# Altium schematic symbol library kmilo17pet-NSC_LDO.SchLib: 2675 symbols (part 28 of 65)
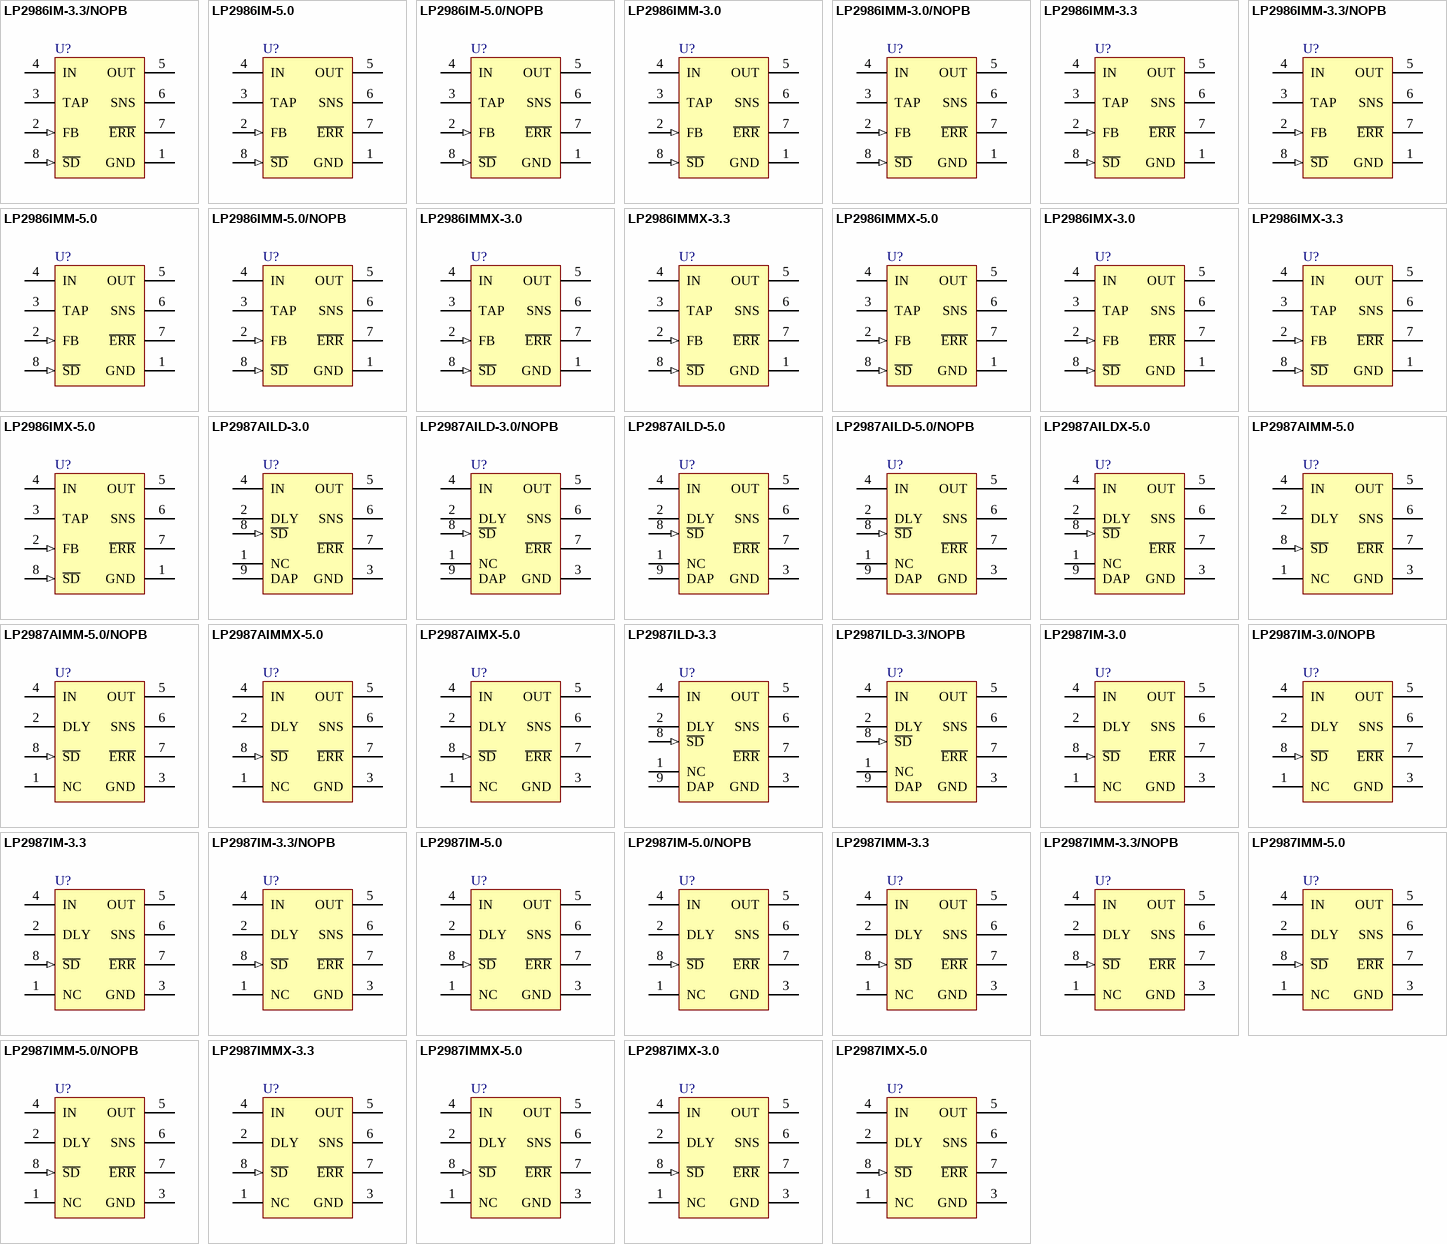
[diagram p94: symbols LP2986IM-3.3/NOPB to LP2987IMX-5.0]

## LP2987ILD-3.3
designator U?
Micropower, 200 mA Ultra Low-Dropout Voltage Regulator with Programmable Power-On Reset Delay, 8-pin LLP; PartNumber: LP2987ILD-3.3; Manufacturer: National Semiconductor; PackageTopMarking: NS*UZXYTT*L008A*B; PowerWise: N; CompType: LDO IC; High-Reliability: Y; DatasheetVersion: Mar-2005; PackageVersion: revB, Jun-2003; PackageReference: LDC08A; PackageDescription: LLP, Plastic, Dual, 4 x 4 x 0.75mm Body, 8 Lead, 0.8mm Pitch; RoHS: N; PinCount: 8; ComponentLink1Description: Manufacturer URL; ComponentLink1URL: http://www.national.com/; ComponentLink2Description: LP2987 Datasheet; ComponentLink2URL: http://www.national.com/ds/LP/LP2987.pdf; ComponentLink3Description: LP2987 Web Page; ComponentLink3URL: http://www.national.com/pf/LP/LP2987.html; ComponentLink4Description: LDC08A Package Page; ComponentLink4URL: http://www.national.com/packaging/folders/ldc08a.html
footprint LDC08A (PSON, 8-Leads, Body 4x4mm, Pitch 0.8mm, NSC Recommended)
pins: 1 NC, 2 DLY, 3 GND (power), 4 IN (power), 5 OUT (power), 6 SNS, 7 ~{ERR} (oc), 8 ~{SD} (in), 9 DAP (power)

## LP2987ILD-3.3/NOPB
designator U?
Micropower, 200 mA Ultra Low-Dropout Voltage Regulator with Programmable Power-On Reset Delay, 8-pin LLP, Pb-Free; PartNumber: LP2987ILD-3.3/NOPB; Manufacturer: National Semiconductor; PackageTopMarking: NS*UZXYTT*L008A*B; PowerWise: N; CompType: LDO IC; High-Reliability: Y; DatasheetVersion: Mar-2005; PackageVersion: revB, Jun-2003; PackageReference: LDC08A; PackageDescription: LLP, Plastic, Dual, 4 x 4 x 0.75mm Body, 8 Lead, 0.8mm Pitch; RoHS: Y; PinCount: 8; ComponentLink1Description: Manufacturer URL; ComponentLink1URL: http://www.national.com/; ComponentLink2Description: LP2987 Datasheet; ComponentLink2URL: http://www.national.com/ds/LP/LP2987.pdf; ComponentLink3Description: LP2987 Web Page; ComponentLink3URL: http://www.national.com/pf/LP/LP2987.html; ComponentLink4Description: LDC08A Package Page; ComponentLink4URL: http://www.national.com/packaging/folders/ldc08a.html
footprint LDC08A (PSON, 8-Leads, Body 4x4mm, Pitch 0.8mm, NSC Recommended)
pins: 1 NC, 2 DLY, 3 GND (power), 4 IN (power), 5 OUT (power), 6 SNS, 7 ~{ERR} (oc), 8 ~{SD} (in), 9 DAP (power)

## LP2987IM-3.0
designator U?
Micropower, 200 mA Ultra Low-Dropout Voltage Regulator with Programmable Power-On Reset Delay, 8-pin Narrow SOIC; PartNumber: LP2987IM-3.0; Manufacturer: National Semiconductor; PackageTopMarking: NSZXTT*2987I*M3.0; PowerWise: N; CompType: LDO IC; High-Reliability: Y; DatasheetVersion: Mar-2005; PackageVersion: revM, May-2009; PackageReference: M08A; PackageDescription: SOIC Narrow, 4.9 x 3.9 x 1.45mm, 8 Lead, 1.27mm Pitch; RoHS: N; PinCount: 8; Code_JEDEC: MS-012-AA; Code_IPC: SOIC127P600-8; ComponentLink1Description: Manufacturer URL; ComponentLink1URL: http://www.national.com/; ComponentLink2Description: LP2987 Datasheet; ComponentLink2URL: http://www.national.com/ds/LP/LP2987.pdf; ComponentLink3Description: LP2987 Web Page; ComponentLink3URL: http://www.national.com/pf/LP/LP2987.html; ComponentLink4Description: M08A Package Page; ComponentLink4URL: http://www.national.com/packaging/folders/m08a.html
footprint M08A_N (SOIC, 8-Leads, Body 4.9x3.9mm, Pitch 1.27mm, IPC Medium Density)
footprint M08A_L (SOIC, 8-Leads, Body 4.9x3.9mm, Pitch 1.27mm, IPC High Density)
footprint M08A_M (SOIC, 8-Leads, Body 4.9x3.9mm, Pitch 1.27mm, IPC Low Density)
pins: 1 NC, 2 DLY, 3 GND (power), 4 IN (power), 5 OUT (power), 6 SNS, 7 ~{ERR} (oc), 8 ~{SD} (in)

## LP2987IM-3.0/NOPB
designator U?
Micropower, 200 mA Ultra Low-Dropout Voltage Regulator with Programmable Power-On Reset Delay, 8-pin Narrow SOIC, Pb-Free; PartNumber: LP2987IM-3.0/NOPB; Manufacturer: National Semiconductor; PackageTopMarking: NSZXTT*2987I*M3.0; PowerWise: N; CompType: LDO IC; High-Reliability: Y; DatasheetVersion: Mar-2005; PackageVersion: revM, May-2009; PackageReference: M08A; PackageDescription: SOIC Narrow, 4.9 x 3.9 x 1.45mm, 8 Lead, 1.27mm Pitch; RoHS: Y; PinCount: 8; Code_JEDEC: MS-012-AA; Code_IPC: SOIC127P600-8; ComponentLink1Description: Manufacturer URL; ComponentLink1URL: http://www.national.com/; ComponentLink2Description: LP2987 Datasheet; ComponentLink2URL: http://www.national.com/ds/LP/LP2987.pdf; ComponentLink3Description: LP2987 Web Page; ComponentLink3URL: http://www.national.com/pf/LP/LP2987.html; ComponentLink4Description: M08A Package Page; ComponentLink4URL: http://www.national.com/packaging/folders/m08a.html
footprint M08A_N (SOIC, 8-Leads, Body 4.9x3.9mm, Pitch 1.27mm, IPC Medium Density)
footprint M08A_L (SOIC, 8-Leads, Body 4.9x3.9mm, Pitch 1.27mm, IPC High Density)
footprint M08A_M (SOIC, 8-Leads, Body 4.9x3.9mm, Pitch 1.27mm, IPC Low Density)
pins: 1 NC, 2 DLY, 3 GND (power), 4 IN (power), 5 OUT (power), 6 SNS, 7 ~{ERR} (oc), 8 ~{SD} (in)

## LP2987IM-3.3
designator U?
Micropower, 200 mA Ultra Low-Dropout Voltage Regulator with Programmable Power-On Reset Delay, 8-pin Narrow SOIC; PartNumber: LP2987IM-3.3; Manufacturer: National Semiconductor; PackageTopMarking: NSZXTT*2987I*M3.3; PowerWise: N; CompType: LDO IC; High-Reliability: Y; DatasheetVersion: Mar-2005; PackageVersion: revM, May-2009; PackageReference: M08A; PackageDescription: SOIC Narrow, 4.9 x 3.9 x 1.45mm, 8 Lead, 1.27mm Pitch; RoHS: N; PinCount: 8; Code_JEDEC: MS-012-AA; Code_IPC: SOIC127P600-8; ComponentLink1Description: Manufacturer URL; ComponentLink1URL: http://www.national.com/; ComponentLink2Description: LP2987 Datasheet; ComponentLink2URL: http://www.national.com/ds/LP/LP2987.pdf; ComponentLink3Description: LP2987 Web Page; ComponentLink3URL: http://www.national.com/pf/LP/LP2987.html; ComponentLink4Description: M08A Package Page; ComponentLink4URL: http://www.national.com/packaging/folders/m08a.html
footprint M08A_N (SOIC, 8-Leads, Body 4.9x3.9mm, Pitch 1.27mm, IPC Medium Density)
footprint M08A_L (SOIC, 8-Leads, Body 4.9x3.9mm, Pitch 1.27mm, IPC High Density)
footprint M08A_M (SOIC, 8-Leads, Body 4.9x3.9mm, Pitch 1.27mm, IPC Low Density)
pins: 1 NC, 2 DLY, 3 GND (power), 4 IN (power), 5 OUT (power), 6 SNS, 7 ~{ERR} (oc), 8 ~{SD} (in)

## LP2987IM-3.3/NOPB
designator U?
Micropower, 200 mA Ultra Low-Dropout Voltage Regulator with Programmable Power-On Reset Delay, 8-pin Narrow SOIC, Pb-Free; PartNumber: LP2987IM-3.3/NOPB; Manufacturer: National Semiconductor; PackageTopMarking: NSZXTT*2987I*M3.3; PowerWise: N; CompType: LDO IC; High-Reliability: Y; DatasheetVersion: Mar-2005; PackageVersion: revM, May-2009; PackageReference: M08A; PackageDescription: SOIC Narrow, 4.9 x 3.9 x 1.45mm, 8 Lead, 1.27mm Pitch; RoHS: Y; PinCount: 8; Code_JEDEC: MS-012-AA; Code_IPC: SOIC127P600-8; ComponentLink1Description: Manufacturer URL; ComponentLink1URL: http://www.national.com/; ComponentLink2Description: LP2987 Datasheet; ComponentLink2URL: http://www.national.com/ds/LP/LP2987.pdf; ComponentLink3Description: LP2987 Web Page; ComponentLink3URL: http://www.national.com/pf/LP/LP2987.html; ComponentLink4Description: M08A Package Page; ComponentLink4URL: http://www.national.com/packaging/folders/m08a.html
footprint M08A_N (SOIC, 8-Leads, Body 4.9x3.9mm, Pitch 1.27mm, IPC Medium Density)
footprint M08A_L (SOIC, 8-Leads, Body 4.9x3.9mm, Pitch 1.27mm, IPC High Density)
footprint M08A_M (SOIC, 8-Leads, Body 4.9x3.9mm, Pitch 1.27mm, IPC Low Density)
pins: 1 NC, 2 DLY, 3 GND (power), 4 IN (power), 5 OUT (power), 6 SNS, 7 ~{ERR} (oc), 8 ~{SD} (in)

## LP2987IM-5.0
designator U?
Micropower, 200 mA Ultra Low-Dropout Voltage Regulator with Programmable Power-On Reset Delay, 8-pin Narrow SOIC; PartNumber: LP2987IM-5.0; Manufacturer: National Semiconductor; PackageTopMarking: NSZXTT*2987I*M5.0; PowerWise: N; CompType: LDO IC; High-Reliability: Y; DatasheetVersion: Mar-2005; PackageVersion: revM, May-2009; PackageReference: M08A; PackageDescription: SOIC Narrow, 4.9 x 3.9 x 1.45mm, 8 Lead, 1.27mm Pitch; RoHS: N; PinCount: 8; Code_JEDEC: MS-012-AA; Code_IPC: SOIC127P600-8; ComponentLink1Description: Manufacturer URL; ComponentLink1URL: http://www.national.com/; ComponentLink2Description: LP2987 Datasheet; ComponentLink2URL: http://www.national.com/ds/LP/LP2987.pdf; ComponentLink3Description: LP2987 Web Page; ComponentLink3URL: http://www.national.com/pf/LP/LP2987.html; ComponentLink4Description: M08A Package Page; ComponentLink4URL: http://www.national.com/packaging/folders/m08a.html
footprint M08A_N (SOIC, 8-Leads, Body 4.9x3.9mm, Pitch 1.27mm, IPC Medium Density)
footprint M08A_L (SOIC, 8-Leads, Body 4.9x3.9mm, Pitch 1.27mm, IPC High Density)
footprint M08A_M (SOIC, 8-Leads, Body 4.9x3.9mm, Pitch 1.27mm, IPC Low Density)
pins: 1 NC, 2 DLY, 3 GND (power), 4 IN (power), 5 OUT (power), 6 SNS, 7 ~{ERR} (oc), 8 ~{SD} (in)

## LP2987IM-5.0/NOPB
designator U?
Micropower, 200 mA Ultra Low-Dropout Voltage Regulator with Programmable Power-On Reset Delay, 8-pin Narrow SOIC, Pb-Free; PartNumber: LP2987IM-5.0/NOPB; Manufacturer: National Semiconductor; PackageTopMarking: NSZXTT*2987I*M5.0; PowerWise: N; CompType: LDO IC; High-Reliability: Y; DatasheetVersion: Mar-2005; PackageVersion: revM, May-2009; PackageReference: M08A; PackageDescription: SOIC Narrow, 4.9 x 3.9 x 1.45mm, 8 Lead, 1.27mm Pitch; RoHS: Y; PinCount: 8; Code_JEDEC: MS-012-AA; Code_IPC: SOIC127P600-8; ComponentLink1Description: Manufacturer URL; ComponentLink1URL: http://www.national.com/; ComponentLink2Description: LP2987 Datasheet; ComponentLink2URL: http://www.national.com/ds/LP/LP2987.pdf; ComponentLink3Description: LP2987 Web Page; ComponentLink3URL: http://www.national.com/pf/LP/LP2987.html; ComponentLink4Description: M08A Package Page; ComponentLink4URL: http://www.national.com/packaging/folders/m08a.html
footprint M08A_N (SOIC, 8-Leads, Body 4.9x3.9mm, Pitch 1.27mm, IPC Medium Density)
footprint M08A_L (SOIC, 8-Leads, Body 4.9x3.9mm, Pitch 1.27mm, IPC High Density)
footprint M08A_M (SOIC, 8-Leads, Body 4.9x3.9mm, Pitch 1.27mm, IPC Low Density)
pins: 1 NC, 2 DLY, 3 GND (power), 4 IN (power), 5 OUT (power), 6 SNS, 7 ~{ERR} (oc), 8 ~{SD} (in)

## LP2987IMM-3.3
designator U?
Micropower, 200 mA Ultra Low-Dropout Voltage Regulator with Programmable Power-On Reset Delay, 8-pin Mini SOIC; PartNumber: LP2987IMM-3.3; Manufacturer: National Semiconductor; PackageTopMarking: ZXTT*L43B; PowerWise: N; CompType: LDO IC; High-Reliability: Y; DatasheetVersion: Mar-2005; PackageVersion: revF, Apr-2008; PackageReference: MUA08A; PackageDescription: MINI SOIC, .118 x .118 x .034in, 8 Lead, .0256in Pitch; RoHS: N; PinCount: 8; Code_JEDEC: MO-187-AA; ComponentLink1Description: Manufacturer URL; ComponentLink1URL: http://www.national.com/; ComponentLink2Description: LP2987 Datasheet; ComponentLink2URL: http://www.national.com/ds/LP/LP2987.pdf; ComponentLink3Description: LP2987 Web Page; ComponentLink3URL: http://www.national.com/pf/LP/LP2987.html; ComponentLink4Description: MUA08A Package Page; ComponentLink4URL: http://www.national.com/packaging/folders/mua08a.html
footprint MUA08A_N (TSOP, 8-Leads, Body 3x3mm, Pitch 0.65mm, IPC Medium Density)
footprint MUA08A_L (TSOP, 8-Leads, Body 3x3mm, Pitch 0.65mm, IPC High Density)
footprint MUA08A_M (TSOP, 8-Leads, Body 3x3mm, Pitch 0.65mm, IPC Low Density)
pins: 1 NC, 2 DLY, 3 GND (power), 4 IN (power), 5 OUT (power), 6 SNS, 7 ~{ERR} (oc), 8 ~{SD} (in)

## LP2987IMM-3.3/NOPB
designator U?
Micropower, 200 mA Ultra Low-Dropout Voltage Regulator with Programmable Power-On Reset Delay, 8-pin Mini SOIC, Pb-Free; PartNumber: LP2987IMM-3.3/NOPB; Manufacturer: National Semiconductor; PackageTopMarking: ZXTT*L43B; PowerWise: N; CompType: LDO IC; High-Reliability: Y; DatasheetVersion: Mar-2005; PackageVersion: revF, Apr-2008; PackageReference: MUA08A; PackageDescription: MINI SOIC, .118 x .118 x .034in, 8 Lead, .0256in Pitch; RoHS: Y; PinCount: 8; Code_JEDEC: MO-187-AA; ComponentLink1Description: Manufacturer URL; ComponentLink1URL: http://www.national.com/; ComponentLink2Description: LP2987 Datasheet; ComponentLink2URL: http://www.national.com/ds/LP/LP2987.pdf; ComponentLink3Description: LP2987 Web Page; ComponentLink3URL: http://www.national.com/pf/LP/LP2987.html; ComponentLink4Description: MUA08A Package Page; ComponentLink4URL: http://www.national.com/packaging/folders/mua08a.html
footprint MUA08A_N (TSOP, 8-Leads, Body 3x3mm, Pitch 0.65mm, IPC Medium Density)
footprint MUA08A_L (TSOP, 8-Leads, Body 3x3mm, Pitch 0.65mm, IPC High Density)
footprint MUA08A_M (TSOP, 8-Leads, Body 3x3mm, Pitch 0.65mm, IPC Low Density)
pins: 1 NC, 2 DLY, 3 GND (power), 4 IN (power), 5 OUT (power), 6 SNS, 7 ~{ERR} (oc), 8 ~{SD} (in)

## LP2987IMM-5.0
designator U?
Micropower, 200 mA Ultra Low-Dropout Voltage Regulator with Programmable Power-On Reset Delay, 8-pin Mini SOIC; PartNumber: LP2987IMM-5.0; Manufacturer: National Semiconductor; PackageTopMarking: ZXTT*L44B; PowerWise: N; CompType: LDO IC; High-Reliability: Y; DatasheetVersion: Mar-2005; PackageVersion: revF, Apr-2008; PackageReference: MUA08A; PackageDescription: MINI SOIC, .118 x .118 x .034in, 8 Lead, .0256in Pitch; RoHS: N; PinCount: 8; Code_JEDEC: MO-187-AA; ComponentLink1Description: Manufacturer URL; ComponentLink1URL: http://www.national.com/; ComponentLink2Description: LP2987 Datasheet; ComponentLink2URL: http://www.national.com/ds/LP/LP2987.pdf; ComponentLink3Description: LP2987 Web Page; ComponentLink3URL: http://www.national.com/pf/LP/LP2987.html; ComponentLink4Description: MUA08A Package Page; ComponentLink4URL: http://www.national.com/packaging/folders/mua08a.html
footprint MUA08A_N (TSOP, 8-Leads, Body 3x3mm, Pitch 0.65mm, IPC Medium Density)
footprint MUA08A_L (TSOP, 8-Leads, Body 3x3mm, Pitch 0.65mm, IPC High Density)
footprint MUA08A_M (TSOP, 8-Leads, Body 3x3mm, Pitch 0.65mm, IPC Low Density)
pins: 1 NC, 2 DLY, 3 GND (power), 4 IN (power), 5 OUT (power), 6 SNS, 7 ~{ERR} (oc), 8 ~{SD} (in)

## LP2987IMM-5.0/NOPB
designator U?
Micropower, 200 mA Ultra Low-Dropout Voltage Regulator with Programmable Power-On Reset Delay, 8-pin Mini SOIC, Pb-Free; PartNumber: LP2987IMM-5.0/NOPB; Manufacturer: National Semiconductor; PackageTopMarking: ZXTT*L44B; PowerWise: N; CompType: LDO IC; High-Reliability: Y; DatasheetVersion: Mar-2005; PackageVersion: revF, Apr-2008; PackageReference: MUA08A; PackageDescription: MINI SOIC, .118 x .118 x .034in, 8 Lead, .0256in Pitch; RoHS: Y; PinCount: 8; Code_JEDEC: MO-187-AA; ComponentLink1Description: Manufacturer URL; ComponentLink1URL: http://www.national.com/; ComponentLink2Description: LP2987 Datasheet; ComponentLink2URL: http://www.national.com/ds/LP/LP2987.pdf; ComponentLink3Description: LP2987 Web Page; ComponentLink3URL: http://www.national.com/pf/LP/LP2987.html; ComponentLink4Description: MUA08A Package Page; ComponentLink4URL: http://www.national.com/packaging/folders/mua08a.html
footprint MUA08A_N (TSOP, 8-Leads, Body 3x3mm, Pitch 0.65mm, IPC Medium Density)
footprint MUA08A_L (TSOP, 8-Leads, Body 3x3mm, Pitch 0.65mm, IPC High Density)
footprint MUA08A_M (TSOP, 8-Leads, Body 3x3mm, Pitch 0.65mm, IPC Low Density)
pins: 1 NC, 2 DLY, 3 GND (power), 4 IN (power), 5 OUT (power), 6 SNS, 7 ~{ERR} (oc), 8 ~{SD} (in)

## LP2987IMMX-3.3
designator U?
Micropower, 200 mA Ultra Low-Dropout Voltage Regulator with Programmable Power-On Reset Delay, 8-pin Mini SOIC; PartNumber: LP2987IMMX-3.3; Manufacturer: National Semiconductor; PackageTopMarking: ZXTT*L43B; PowerWise: N; CompType: LDO IC; High-Reliability: Y; DatasheetVersion: Mar-2005; PackageVersion: revF, Apr-2008; PackageReference: MUA08A; PackageDescription: MINI SOIC, .118 x .118 x .034in, 8 Lead, .0256in Pitch; RoHS: N; PinCount: 8; Code_JEDEC: MO-187-AA; ComponentLink1Description: Manufacturer URL; ComponentLink1URL: http://www.national.com/; ComponentLink2Description: LP2987 Datasheet; ComponentLink2URL: http://www.national.com/ds/LP/LP2987.pdf; ComponentLink3Description: LP2987 Web Page; ComponentLink3URL: http://www.national.com/pf/LP/LP2987.html; ComponentLink4Description: MUA08A Package Page; ComponentLink4URL: http://www.national.com/packaging/folders/mua08a.html
footprint MUA08A_N (TSOP, 8-Leads, Body 3x3mm, Pitch 0.65mm, IPC Medium Density)
footprint MUA08A_L (TSOP, 8-Leads, Body 3x3mm, Pitch 0.65mm, IPC High Density)
footprint MUA08A_M (TSOP, 8-Leads, Body 3x3mm, Pitch 0.65mm, IPC Low Density)
pins: 1 NC, 2 DLY, 3 GND (power), 4 IN (power), 5 OUT (power), 6 SNS, 7 ~{ERR} (oc), 8 ~{SD} (in)

## LP2987IMMX-5.0
designator U?
Micropower, 200 mA Ultra Low-Dropout Voltage Regulator with Programmable Power-On Reset Delay, 8-pin Mini SOIC; PartNumber: LP2987IMMX-5.0; Manufacturer: National Semiconductor; PackageTopMarking: ZXTT*L44B; PowerWise: N; CompType: LDO IC; High-Reliability: Y; DatasheetVersion: Mar-2005; PackageVersion: revF, Apr-2008; PackageReference: MUA08A; PackageDescription: MINI SOIC, .118 x .118 x .034in, 8 Lead, .0256in Pitch; RoHS: N; PinCount: 8; Code_JEDEC: MO-187-AA; ComponentLink1Description: Manufacturer URL; ComponentLink1URL: http://www.national.com/; ComponentLink2Description: LP2987 Datasheet; ComponentLink2URL: http://www.national.com/ds/LP/LP2987.pdf; ComponentLink3Description: LP2987 Web Page; ComponentLink3URL: http://www.national.com/pf/LP/LP2987.html; ComponentLink4Description: MUA08A Package Page; ComponentLink4URL: http://www.national.com/packaging/folders/mua08a.html
footprint MUA08A_N (TSOP, 8-Leads, Body 3x3mm, Pitch 0.65mm, IPC Medium Density)
footprint MUA08A_L (TSOP, 8-Leads, Body 3x3mm, Pitch 0.65mm, IPC High Density)
footprint MUA08A_M (TSOP, 8-Leads, Body 3x3mm, Pitch 0.65mm, IPC Low Density)
pins: 1 NC, 2 DLY, 3 GND (power), 4 IN (power), 5 OUT (power), 6 SNS, 7 ~{ERR} (oc), 8 ~{SD} (in)

## LP2987IMX-3.0
designator U?
Micropower, 200 mA Ultra Low-Dropout Voltage Regulator with Programmable Power-On Reset Delay, 8-pin Narrow SOIC; PartNumber: LP2987IMX-3.0; Manufacturer: National Semiconductor; PackageTopMarking: NSZXTT*2987I*M3.0; PowerWise: N; CompType: LDO IC; High-Reliability: Y; DatasheetVersion: Mar-2005; PackageVersion: revM, May-2009; PackageReference: M08A; PackageDescription: SOIC Narrow, 4.9 x 3.9 x 1.45mm, 8 Lead, 1.27mm Pitch; RoHS: N; PinCount: 8; Code_JEDEC: MS-012-AA; Code_IPC: SOIC127P600-8; ComponentLink1Description: Manufacturer URL; ComponentLink1URL: http://www.national.com/; ComponentLink2Description: LP2987 Datasheet; ComponentLink2URL: http://www.national.com/ds/LP/LP2987.pdf; ComponentLink3Description: LP2987 Web Page; ComponentLink3URL: http://www.national.com/pf/LP/LP2987.html; ComponentLink4Description: M08A Package Page; ComponentLink4URL: http://www.national.com/packaging/folders/m08a.html
footprint M08A_N (SOIC, 8-Leads, Body 4.9x3.9mm, Pitch 1.27mm, IPC Medium Density)
footprint M08A_L (SOIC, 8-Leads, Body 4.9x3.9mm, Pitch 1.27mm, IPC High Density)
footprint M08A_M (SOIC, 8-Leads, Body 4.9x3.9mm, Pitch 1.27mm, IPC Low Density)
pins: 1 NC, 2 DLY, 3 GND (power), 4 IN (power), 5 OUT (power), 6 SNS, 7 ~{ERR} (oc), 8 ~{SD} (in)

## LP2987IMX-5.0
designator U?
Micropower, 200 mA Ultra Low-Dropout Voltage Regulator with Programmable Power-On Reset Delay, 8-pin Narrow SOIC; PartNumber: LP2987IMX-5.0; Manufacturer: National Semiconductor; PackageTopMarking: NSZXTT*2987I*M5.0; PowerWise: N; CompType: LDO IC; High-Reliability: Y; DatasheetVersion: Mar-2005; PackageVersion: revM, May-2009; PackageReference: M08A; PackageDescription: SOIC Narrow, 4.9 x 3.9 x 1.45mm, 8 Lead, 1.27mm Pitch; RoHS: N; PinCount: 8; Code_JEDEC: MS-012-AA; Code_IPC: SOIC127P600-8; ComponentLink1Description: Manufacturer URL; ComponentLink1URL: http://www.national.com/; ComponentLink2Description: LP2987 Datasheet; ComponentLink2URL: http://www.national.com/ds/LP/LP2987.pdf; ComponentLink3Description: LP2987 Web Page; ComponentLink3URL: http://www.national.com/pf/LP/LP2987.html; ComponentLink4Description: M08A Package Page; ComponentLink4URL: http://www.national.com/packaging/folders/m08a.html
footprint M08A_N (SOIC, 8-Leads, Body 4.9x3.9mm, Pitch 1.27mm, IPC Medium Density)
footprint M08A_L (SOIC, 8-Leads, Body 4.9x3.9mm, Pitch 1.27mm, IPC High Density)
footprint M08A_M (SOIC, 8-Leads, Body 4.9x3.9mm, Pitch 1.27mm, IPC Low Density)
pins: 1 NC, 2 DLY, 3 GND (power), 4 IN (power), 5 OUT (power), 6 SNS, 7 ~{ERR} (oc), 8 ~{SD} (in)

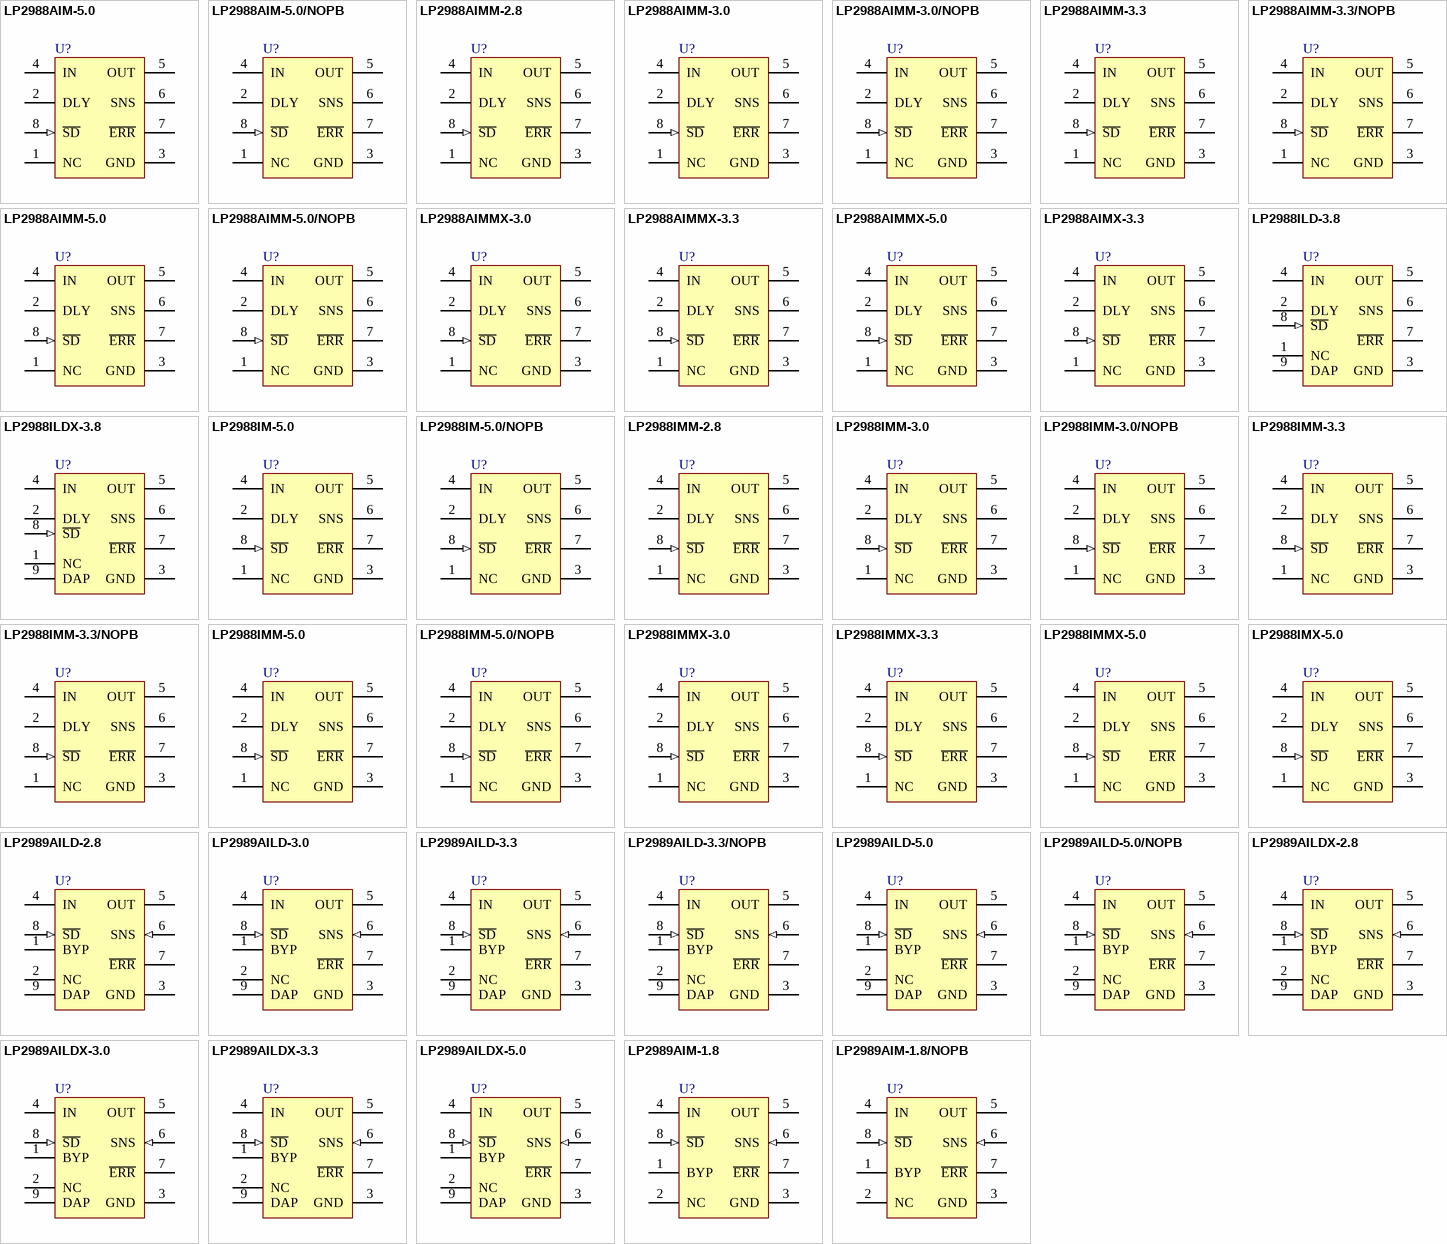
[diagram p29: symbols LP2988AIM-5.0 to LP2989AIM-1.8/NOPB]

## LP2988AIM-5.0
designator U?
Micropower, 200 mA Ultra Low-Dropout Low Noise Voltage Regulator with Programmable Power-On Reset Delay, 8-pin Narrow SOIC; PartNumber: LP2988AIM-5.0; Manufacturer: National Semiconductor; PackageTopMarking: NSZXTT*2988A*IM5.0; PowerWise: N; CompType: LDO IC; High-Reliability: Y; DatasheetVersion: Mar-2005; PackageVersion: revM, May-2009; PackageReference: M08A; PackageDescription: SOIC Narrow, 4.9 x 3.9 x 1.45mm, 8 Lead, 1.27mm Pitch; RoHS: N; PinCount: 8; Code_JEDEC: MS-012-AA; Code_IPC: SOIC127P600-8; ComponentLink1Description: Manufacturer URL; ComponentLink1URL: http://www.national.com/; ComponentLink2Description: LP2988 Datasheet; ComponentLink2URL: http://www.national.com/ds/LP/LP2988.pdf; ComponentLink3Description: LP2988 Web Page; ComponentLink3URL: http://www.national.com/pf/LP/LP2988.html; ComponentLink4Description: M08A Package Page; ComponentLink4URL: http://www.national.com/packaging/folders/m08a.html
footprint M08A_N (SOIC, 8-Leads, Body 4.9x3.9mm, Pitch 1.27mm, IPC Medium Density)
footprint M08A_L (SOIC, 8-Leads, Body 4.9x3.9mm, Pitch 1.27mm, IPC High Density)
footprint M08A_M (SOIC, 8-Leads, Body 4.9x3.9mm, Pitch 1.27mm, IPC Low Density)
pins: 1 NC, 2 DLY, 3 GND (power), 4 IN (power), 5 OUT (power), 6 SNS, 7 ~{ERR} (oc), 8 ~{SD} (in)

## LP2988AIM-5.0/NOPB
designator U?
Micropower, 200 mA Ultra Low-Dropout Low Noise Voltage Regulator with Programmable Power-On Reset Delay, 8-pin Narrow SOIC, Pb-Free; PartNumber: LP2988AIM-5.0/NOPB; Manufacturer: National Semiconductor; PackageTopMarking: NSZXTT*2988A*IM5.0; PowerWise: N; CompType: LDO IC; High-Reliability: Y; DatasheetVersion: Mar-2005; PackageVersion: revM, May-2009; PackageReference: M08A; PackageDescription: SOIC Narrow, 4.9 x 3.9 x 1.45mm, 8 Lead, 1.27mm Pitch; RoHS: Y; PinCount: 8; Code_JEDEC: MS-012-AA; Code_IPC: SOIC127P600-8; ComponentLink1Description: Manufacturer URL; ComponentLink1URL: http://www.national.com/; ComponentLink2Description: LP2988 Datasheet; ComponentLink2URL: http://www.national.com/ds/LP/LP2988.pdf; ComponentLink3Description: LP2988 Web Page; ComponentLink3URL: http://www.national.com/pf/LP/LP2988.html; ComponentLink4Description: M08A Package Page; ComponentLink4URL: http://www.national.com/packaging/folders/m08a.html
footprint M08A_N (SOIC, 8-Leads, Body 4.9x3.9mm, Pitch 1.27mm, IPC Medium Density)
footprint M08A_L (SOIC, 8-Leads, Body 4.9x3.9mm, Pitch 1.27mm, IPC High Density)
footprint M08A_M (SOIC, 8-Leads, Body 4.9x3.9mm, Pitch 1.27mm, IPC Low Density)
pins: 1 NC, 2 DLY, 3 GND (power), 4 IN (power), 5 OUT (power), 6 SNS, 7 ~{ERR} (oc), 8 ~{SD} (in)

## LP2988AIMM-2.8
designator U?
Micropower, 200 mA Ultra Low-Dropout Low Noise Voltage Regulator with Programmable Power-On Reset Delay, 8-pin Mini SOIC; PartNumber: LP2988AIMM-2.8; Manufacturer: National Semiconductor; PackageTopMarking: ZXTT*L0IA; PowerWise: N; CompType: LDO IC; High-Reliability: Y; DatasheetVersion: Mar-2005; PackageVersion: revF, Apr-2008; PackageReference: MUA08A; PackageDescription: MINI SOIC, .118 x .118 x .034in, 8 Lead, .0256in Pitch; RoHS: N; PinCount: 8; Code_JEDEC: MO-187-AA; ComponentLink1Description: Manufacturer URL; ComponentLink1URL: http://www.national.com/; ComponentLink2Description: LP2988 Datasheet; ComponentLink2URL: http://www.national.com/ds/LP/LP2988.pdf; ComponentLink3Description: LP2988 Web Page; ComponentLink3URL: http://www.national.com/pf/LP/LP2988.html; ComponentLink4Description: MUA08A Package Page; ComponentLink4URL: http://www.national.com/packaging/folders/mua08a.html
footprint MUA08A_N (TSOP, 8-Leads, Body 3x3mm, Pitch 0.65mm, IPC Medium Density)
footprint MUA08A_L (TSOP, 8-Leads, Body 3x3mm, Pitch 0.65mm, IPC High Density)
footprint MUA08A_M (TSOP, 8-Leads, Body 3x3mm, Pitch 0.65mm, IPC Low Density)
pins: 1 NC, 2 DLY, 3 GND (power), 4 IN (power), 5 OUT (power), 6 SNS, 7 ~{ERR} (oc), 8 ~{SD} (in)

## LP2988AIMM-3.0
designator U?
Micropower, 200 mA Ultra Low-Dropout Low Noise Voltage Regulator with Programmable Power-On Reset Delay, 8-pin Mini SOIC; PartNumber: LP2988AIMM-3.0; Manufacturer: National Semiconductor; PackageTopMarking: ZXTT*L49A; PowerWise: N; CompType: LDO IC; High-Reliability: Y; DatasheetVersion: Mar-2005; PackageVersion: revF, Apr-2008; PackageReference: MUA08A; PackageDescription: MINI SOIC, .118 x .118 x .034in, 8 Lead, .0256in Pitch; RoHS: N; PinCount: 8; Code_JEDEC: MO-187-AA; ComponentLink1Description: Manufacturer URL; ComponentLink1URL: http://www.national.com/; ComponentLink2Description: LP2988 Datasheet; ComponentLink2URL: http://www.national.com/ds/LP/LP2988.pdf; ComponentLink3Description: LP2988 Web Page; ComponentLink3URL: http://www.national.com/pf/LP/LP2988.html; ComponentLink4Description: MUA08A Package Page; ComponentLink4URL: http://www.national.com/packaging/folders/mua08a.html
footprint MUA08A_N (TSOP, 8-Leads, Body 3x3mm, Pitch 0.65mm, IPC Medium Density)
footprint MUA08A_L (TSOP, 8-Leads, Body 3x3mm, Pitch 0.65mm, IPC High Density)
footprint MUA08A_M (TSOP, 8-Leads, Body 3x3mm, Pitch 0.65mm, IPC Low Density)
pins: 1 NC, 2 DLY, 3 GND (power), 4 IN (power), 5 OUT (power), 6 SNS, 7 ~{ERR} (oc), 8 ~{SD} (in)

## LP2988AIMM-3.0/NOPB
designator U?
Micropower, 200 mA Ultra Low-Dropout Low Noise Voltage Regulator with Programmable Power-On Reset Delay, 8-pin Mini SOIC, Pb-Free; PartNumber: LP2988AIMM-3.0/NOPB; Manufacturer: National Semiconductor; PackageTopMarking: ZXTT*L49A; PowerWise: N; CompType: LDO IC; High-Reliability: Y; DatasheetVersion: Mar-2005; PackageVersion: revF, Apr-2008; PackageReference: MUA08A; PackageDescription: MINI SOIC, .118 x .118 x .034in, 8 Lead, .0256in Pitch; RoHS: Y; PinCount: 8; Code_JEDEC: MO-187-AA; ComponentLink1Description: Manufacturer URL; ComponentLink1URL: http://www.national.com/; ComponentLink2Description: LP2988 Datasheet; ComponentLink2URL: http://www.national.com/ds/LP/LP2988.pdf; ComponentLink3Description: LP2988 Web Page; ComponentLink3URL: http://www.national.com/pf/LP/LP2988.html; ComponentLink4Description: MUA08A Package Page; ComponentLink4URL: http://www.national.com/packaging/folders/mua08a.html
footprint MUA08A_N (TSOP, 8-Leads, Body 3x3mm, Pitch 0.65mm, IPC Medium Density)
footprint MUA08A_L (TSOP, 8-Leads, Body 3x3mm, Pitch 0.65mm, IPC High Density)
footprint MUA08A_M (TSOP, 8-Leads, Body 3x3mm, Pitch 0.65mm, IPC Low Density)
pins: 1 NC, 2 DLY, 3 GND (power), 4 IN (power), 5 OUT (power), 6 SNS, 7 ~{ERR} (oc), 8 ~{SD} (in)

## LP2988AIMM-3.3
designator U?
Micropower, 200 mA Ultra Low-Dropout Low Noise Voltage Regulator with Programmable Power-On Reset Delay, 8-pin Mini SOIC; PartNumber: LP2988AIMM-3.3; Manufacturer: National Semiconductor; PackageTopMarking: ZXTT*L50A; PowerWise: N; CompType: LDO IC; High-Reliability: Y; DatasheetVersion: Mar-2005; PackageVersion: revF, Apr-2008; PackageReference: MUA08A; PackageDescription: MINI SOIC, .118 x .118 x .034in, 8 Lead, .0256in Pitch; RoHS: N; PinCount: 8; Code_JEDEC: MO-187-AA; ComponentLink1Description: Manufacturer URL; ComponentLink1URL: http://www.national.com/; ComponentLink2Description: LP2988 Datasheet; ComponentLink2URL: http://www.national.com/ds/LP/LP2988.pdf; ComponentLink3Description: LP2988 Web Page; ComponentLink3URL: http://www.national.com/pf/LP/LP2988.html; ComponentLink4Description: MUA08A Package Page; ComponentLink4URL: http://www.national.com/packaging/folders/mua08a.html
footprint MUA08A_N (TSOP, 8-Leads, Body 3x3mm, Pitch 0.65mm, IPC Medium Density)
footprint MUA08A_L (TSOP, 8-Leads, Body 3x3mm, Pitch 0.65mm, IPC High Density)
footprint MUA08A_M (TSOP, 8-Leads, Body 3x3mm, Pitch 0.65mm, IPC Low Density)
pins: 1 NC, 2 DLY, 3 GND (power), 4 IN (power), 5 OUT (power), 6 SNS, 7 ~{ERR} (oc), 8 ~{SD} (in)

## LP2988AIMM-3.3/NOPB
designator U?
Micropower, 200 mA Ultra Low-Dropout Low Noise Voltage Regulator with Programmable Power-On Reset Delay, 8-pin Mini SOIC, Pb-Free; PartNumber: LP2988AIMM-3.3/NOPB; Manufacturer: National Semiconductor; PackageTopMarking: ZXTT*L50A; PowerWise: N; CompType: LDO IC; High-Reliability: Y; DatasheetVersion: Mar-2005; PackageVersion: revF, Apr-2008; PackageReference: MUA08A; PackageDescription: MINI SOIC, .118 x .118 x .034in, 8 Lead, .0256in Pitch; RoHS: Y; PinCount: 8; Code_JEDEC: MO-187-AA; ComponentLink1Description: Manufacturer URL; ComponentLink1URL: http://www.national.com/; ComponentLink2Description: LP2988 Datasheet; ComponentLink2URL: http://www.national.com/ds/LP/LP2988.pdf; ComponentLink3Description: LP2988 Web Page; ComponentLink3URL: http://www.national.com/pf/LP/LP2988.html; ComponentLink4Description: MUA08A Package Page; ComponentLink4URL: http://www.national.com/packaging/folders/mua08a.html
footprint MUA08A_N (TSOP, 8-Leads, Body 3x3mm, Pitch 0.65mm, IPC Medium Density)
footprint MUA08A_L (TSOP, 8-Leads, Body 3x3mm, Pitch 0.65mm, IPC High Density)
footprint MUA08A_M (TSOP, 8-Leads, Body 3x3mm, Pitch 0.65mm, IPC Low Density)
pins: 1 NC, 2 DLY, 3 GND (power), 4 IN (power), 5 OUT (power), 6 SNS, 7 ~{ERR} (oc), 8 ~{SD} (in)

## LP2988AIMM-5.0
designator U?
Micropower, 200 mA Ultra Low-Dropout Low Noise Voltage Regulator with Programmable Power-On Reset Delay, 8-pin Mini SOIC; PartNumber: LP2988AIMM-5.0; Manufacturer: National Semiconductor; PackageTopMarking: ZXTT*L51A; PowerWise: N; CompType: LDO IC; High-Reliability: Y; DatasheetVersion: Mar-2005; PackageVersion: revF, Apr-2008; PackageReference: MUA08A; PackageDescription: MINI SOIC, .118 x .118 x .034in, 8 Lead, .0256in Pitch; RoHS: N; PinCount: 8; Code_JEDEC: MO-187-AA; ComponentLink1Description: Manufacturer URL; ComponentLink1URL: http://www.national.com/; ComponentLink2Description: LP2988 Datasheet; ComponentLink2URL: http://www.national.com/ds/LP/LP2988.pdf; ComponentLink3Description: LP2988 Web Page; ComponentLink3URL: http://www.national.com/pf/LP/LP2988.html; ComponentLink4Description: MUA08A Package Page; ComponentLink4URL: http://www.national.com/packaging/folders/mua08a.html
footprint MUA08A_N (TSOP, 8-Leads, Body 3x3mm, Pitch 0.65mm, IPC Medium Density)
footprint MUA08A_L (TSOP, 8-Leads, Body 3x3mm, Pitch 0.65mm, IPC High Density)
footprint MUA08A_M (TSOP, 8-Leads, Body 3x3mm, Pitch 0.65mm, IPC Low Density)
pins: 1 NC, 2 DLY, 3 GND (power), 4 IN (power), 5 OUT (power), 6 SNS, 7 ~{ERR} (oc), 8 ~{SD} (in)

## LP2988AIMM-5.0/NOPB
designator U?
Micropower, 200 mA Ultra Low-Dropout Low Noise Voltage Regulator with Programmable Power-On Reset Delay, 8-pin Mini SOIC, Pb-Free; PartNumber: LP2988AIMM-5.0/NOPB; Manufacturer: National Semiconductor; PackageTopMarking: ZXTT*L51A; PowerWise: N; CompType: LDO IC; High-Reliability: Y; DatasheetVersion: Mar-2005; PackageVersion: revF, Apr-2008; PackageReference: MUA08A; PackageDescription: MINI SOIC, .118 x .118 x .034in, 8 Lead, .0256in Pitch; RoHS: Y; PinCount: 8; Code_JEDEC: MO-187-AA; ComponentLink1Description: Manufacturer URL; ComponentLink1URL: http://www.national.com/; ComponentLink2Description: LP2988 Datasheet; ComponentLink2URL: http://www.national.com/ds/LP/LP2988.pdf; ComponentLink3Description: LP2988 Web Page; ComponentLink3URL: http://www.national.com/pf/LP/LP2988.html; ComponentLink4Description: MUA08A Package Page; ComponentLink4URL: http://www.national.com/packaging/folders/mua08a.html
footprint MUA08A_N (TSOP, 8-Leads, Body 3x3mm, Pitch 0.65mm, IPC Medium Density)
footprint MUA08A_L (TSOP, 8-Leads, Body 3x3mm, Pitch 0.65mm, IPC High Density)
footprint MUA08A_M (TSOP, 8-Leads, Body 3x3mm, Pitch 0.65mm, IPC Low Density)
pins: 1 NC, 2 DLY, 3 GND (power), 4 IN (power), 5 OUT (power), 6 SNS, 7 ~{ERR} (oc), 8 ~{SD} (in)

## LP2988AIMMX-3.0
designator U?
Micropower, 200 mA Ultra Low-Dropout Low Noise Voltage Regulator with Programmable Power-On Reset Delay, 8-pin Mini SOIC; PartNumber: LP2988AIMMX-3.0; Manufacturer: National Semiconductor; PackageTopMarking: ZXTT*L49A; PowerWise: N; CompType: LDO IC; High-Reliability: Y; DatasheetVersion: Mar-2005; PackageVersion: revF, Apr-2008; PackageReference: MUA08A; PackageDescription: MINI SOIC, .118 x .118 x .034in, 8 Lead, .0256in Pitch; RoHS: N; PinCount: 8; Code_JEDEC: MO-187-AA; ComponentLink1Description: Manufacturer URL; ComponentLink1URL: http://www.national.com/; ComponentLink2Description: LP2988 Datasheet; ComponentLink2URL: http://www.national.com/ds/LP/LP2988.pdf; ComponentLink3Description: LP2988 Web Page; ComponentLink3URL: http://www.national.com/pf/LP/LP2988.html; ComponentLink4Description: MUA08A Package Page; ComponentLink4URL: http://www.national.com/packaging/folders/mua08a.html
footprint MUA08A_N (TSOP, 8-Leads, Body 3x3mm, Pitch 0.65mm, IPC Medium Density)
footprint MUA08A_L (TSOP, 8-Leads, Body 3x3mm, Pitch 0.65mm, IPC High Density)
footprint MUA08A_M (TSOP, 8-Leads, Body 3x3mm, Pitch 0.65mm, IPC Low Density)
pins: 1 NC, 2 DLY, 3 GND (power), 4 IN (power), 5 OUT (power), 6 SNS, 7 ~{ERR} (oc), 8 ~{SD} (in)

## LP2988AIMMX-3.3
designator U?
Micropower, 200 mA Ultra Low-Dropout Low Noise Voltage Regulator with Programmable Power-On Reset Delay, 8-pin Mini SOIC; PartNumber: LP2988AIMMX-3.3; Manufacturer: National Semiconductor; PackageTopMarking: ZXTT*L50A; PowerWise: N; CompType: LDO IC; High-Reliability: Y; DatasheetVersion: Mar-2005; PackageVersion: revF, Apr-2008; PackageReference: MUA08A; PackageDescription: MINI SOIC, .118 x .118 x .034in, 8 Lead, .0256in Pitch; RoHS: N; PinCount: 8; Code_JEDEC: MO-187-AA; ComponentLink1Description: Manufacturer URL; ComponentLink1URL: http://www.national.com/; ComponentLink2Description: LP2988 Datasheet; ComponentLink2URL: http://www.national.com/ds/LP/LP2988.pdf; ComponentLink3Description: LP2988 Web Page; ComponentLink3URL: http://www.national.com/pf/LP/LP2988.html; ComponentLink4Description: MUA08A Package Page; ComponentLink4URL: http://www.national.com/packaging/folders/mua08a.html
footprint MUA08A_N (TSOP, 8-Leads, Body 3x3mm, Pitch 0.65mm, IPC Medium Density)
footprint MUA08A_L (TSOP, 8-Leads, Body 3x3mm, Pitch 0.65mm, IPC High Density)
footprint MUA08A_M (TSOP, 8-Leads, Body 3x3mm, Pitch 0.65mm, IPC Low Density)
pins: 1 NC, 2 DLY, 3 GND (power), 4 IN (power), 5 OUT (power), 6 SNS, 7 ~{ERR} (oc), 8 ~{SD} (in)

## LP2988AIMMX-5.0
designator U?
Micropower, 200 mA Ultra Low-Dropout Low Noise Voltage Regulator with Programmable Power-On Reset Delay, 8-pin Mini SOIC; PartNumber: LP2988AIMMX-5.0; Manufacturer: National Semiconductor; PackageTopMarking: ZXTT*L51A; PowerWise: N; CompType: LDO IC; High-Reliability: Y; DatasheetVersion: Mar-2005; PackageVersion: revF, Apr-2008; PackageReference: MUA08A; PackageDescription: MINI SOIC, .118 x .118 x .034in, 8 Lead, .0256in Pitch; RoHS: N; PinCount: 8; Code_JEDEC: MO-187-AA; ComponentLink1Description: Manufacturer URL; ComponentLink1URL: http://www.national.com/; ComponentLink2Description: LP2988 Datasheet; ComponentLink2URL: http://www.national.com/ds/LP/LP2988.pdf; ComponentLink3Description: LP2988 Web Page; ComponentLink3URL: http://www.national.com/pf/LP/LP2988.html; ComponentLink4Description: MUA08A Package Page; ComponentLink4URL: http://www.national.com/packaging/folders/mua08a.html
footprint MUA08A_N (TSOP, 8-Leads, Body 3x3mm, Pitch 0.65mm, IPC Medium Density)
footprint MUA08A_L (TSOP, 8-Leads, Body 3x3mm, Pitch 0.65mm, IPC High Density)
footprint MUA08A_M (TSOP, 8-Leads, Body 3x3mm, Pitch 0.65mm, IPC Low Density)
pins: 1 NC, 2 DLY, 3 GND (power), 4 IN (power), 5 OUT (power), 6 SNS, 7 ~{ERR} (oc), 8 ~{SD} (in)

## LP2988AIMX-3.3
designator U?
Micropower, 200 mA Ultra Low-Dropout Low Noise Voltage Regulator with Programmable Power-On Reset Delay, 8-pin Narrow SOIC; PartNumber: LP2988AIMX-3.3; Manufacturer: National Semiconductor; PackageTopMarking: NSZXTT*2988A*IM3.3; PowerWise: N; CompType: LDO IC; High-Reliability: Y; DatasheetVersion: Mar-2005; PackageVersion: revM, May-2009; PackageReference: M08A; PackageDescription: SOIC Narrow, 4.9 x 3.9 x 1.45mm, 8 Lead, 1.27mm Pitch; RoHS: N; PinCount: 8; Code_JEDEC: MS-012-AA; Code_IPC: SOIC127P600-8; ComponentLink1Description: Manufacturer URL; ComponentLink1URL: http://www.national.com/; ComponentLink2Description: LP2988 Datasheet; ComponentLink2URL: http://www.national.com/ds/LP/LP2988.pdf; ComponentLink3Description: LP2988 Web Page; ComponentLink3URL: http://www.national.com/pf/LP/LP2988.html; ComponentLink4Description: M08A Package Page; ComponentLink4URL: http://www.national.com/packaging/folders/m08a.html
footprint M08A_N (SOIC, 8-Leads, Body 4.9x3.9mm, Pitch 1.27mm, IPC Medium Density)
footprint M08A_L (SOIC, 8-Leads, Body 4.9x3.9mm, Pitch 1.27mm, IPC High Density)
footprint M08A_M (SOIC, 8-Leads, Body 4.9x3.9mm, Pitch 1.27mm, IPC Low Density)
pins: 1 NC, 2 DLY, 3 GND (power), 4 IN (power), 5 OUT (power), 6 SNS, 7 ~{ERR} (oc), 8 ~{SD} (in)

## LP2988ILD-3.8
designator U?
Micropower, 200 mA Ultra Low-Dropout Low Noise Voltage Regulator with Programmable Power-On Reset Delay, 8-pin LLP; PartNumber: LP2988ILD-3.8; Manufacturer: National Semiconductor; PackageTopMarking: NS*UZXYTT*L083A B; PowerWise: N; CompType: LDO IC; High-Reliability: Y; DatasheetVersion: Mar-2005; PackageVersion: revB, Jun-2003; PackageReference: LDC08A; PackageDescription: LLP, Plastic, Dual, 4 x 4 x 0.75mm Body, 8 Lead, 0.8mm Pitch; RoHS: N; PinCount: 8; ComponentLink1Description: Manufacturer URL; ComponentLink1URL: http://www.national.com/; ComponentLink2Description: LP2988 Datasheet; ComponentLink2URL: http://www.national.com/ds/LP/LP2988.pdf; ComponentLink3Description: LP2988 Web Page; ComponentLink3URL: http://www.national.com/pf/LP/LP2988.html; ComponentLink4Description: LDC08A Package Page; ComponentLink4URL: http://www.national.com/packaging/folders/ldc08a.html
footprint LDC08A (PSON, 8-Leads, Body 4x4mm, Pitch 0.8mm, NSC Recommended)
pins: 1 NC, 2 DLY, 3 GND (power), 4 IN (power), 5 OUT (power), 6 SNS, 7 ~{ERR} (oc), 8 ~{SD} (in), 9 DAP (power)

## LP2988ILDX-3.8
designator U?
Micropower, 200 mA Ultra Low-Dropout Low Noise Voltage Regulator with Programmable Power-On Reset Delay, 8-pin LLP; PartNumber: LP2988ILDX-3.8; Manufacturer: National Semiconductor; PackageTopMarking: NS*UZXYTT*L083A B; PowerWise: N; CompType: LDO IC; High-Reliability: Y; DatasheetVersion: Mar-2005; PackageVersion: revB, Jun-2003; PackageReference: LDC08A; PackageDescription: LLP, Plastic, Dual, 4 x 4 x 0.75mm Body, 8 Lead, 0.8mm Pitch; RoHS: N; PinCount: 8; ComponentLink1Description: Manufacturer URL; ComponentLink1URL: http://www.national.com/; ComponentLink2Description: LP2988 Datasheet; ComponentLink2URL: http://www.national.com/ds/LP/LP2988.pdf; ComponentLink3Description: LP2988 Web Page; ComponentLink3URL: http://www.national.com/pf/LP/LP2988.html; ComponentLink4Description: LDC08A Package Page; ComponentLink4URL: http://www.national.com/packaging/folders/ldc08a.html
footprint LDC08A (PSON, 8-Leads, Body 4x4mm, Pitch 0.8mm, NSC Recommended)
pins: 1 NC, 2 DLY, 3 GND (power), 4 IN (power), 5 OUT (power), 6 SNS, 7 ~{ERR} (oc), 8 ~{SD} (in), 9 DAP (power)

## LP2988IM-5.0
designator U?
Micropower, 200 mA Ultra Low-Dropout Low Noise Voltage Regulator with Programmable Power-On Reset Delay, 8-pin Narrow SOIC; PartNumber: LP2988IM-5.0; Manufacturer: National Semiconductor; PackageTopMarking: NSZXTT*2988I*M5.0; PowerWise: N; CompType: LDO IC; High-Reliability: Y; DatasheetVersion: Mar-2005; PackageVersion: revM, May-2009; PackageReference: M08A; PackageDescription: SOIC Narrow, 4.9 x 3.9 x 1.45mm, 8 Lead, 1.27mm Pitch; RoHS: N; PinCount: 8; Code_JEDEC: MS-012-AA; Code_IPC: SOIC127P600-8; ComponentLink1Description: Manufacturer URL; ComponentLink1URL: http://www.national.com/; ComponentLink2Description: LP2988 Datasheet; ComponentLink2URL: http://www.national.com/ds/LP/LP2988.pdf; ComponentLink3Description: LP2988 Web Page; ComponentLink3URL: http://www.national.com/pf/LP/LP2988.html; ComponentLink4Description: M08A Package Page; ComponentLink4URL: http://www.national.com/packaging/folders/m08a.html
footprint M08A_N (SOIC, 8-Leads, Body 4.9x3.9mm, Pitch 1.27mm, IPC Medium Density)
footprint M08A_L (SOIC, 8-Leads, Body 4.9x3.9mm, Pitch 1.27mm, IPC High Density)
footprint M08A_M (SOIC, 8-Leads, Body 4.9x3.9mm, Pitch 1.27mm, IPC Low Density)
pins: 1 NC, 2 DLY, 3 GND (power), 4 IN (power), 5 OUT (power), 6 SNS, 7 ~{ERR} (oc), 8 ~{SD} (in)

## LP2988IM-5.0/NOPB
designator U?
Micropower, 200 mA Ultra Low-Dropout Low Noise Voltage Regulator with Programmable Power-On Reset Delay, 8-pin Narrow SOIC, Pb-Free; PartNumber: LP2988IM-5.0/NOPB; Manufacturer: National Semiconductor; PackageTopMarking: NSZXTT*2988I*M5.0; PowerWise: N; CompType: LDO IC; High-Reliability: Y; DatasheetVersion: Mar-2005; PackageVersion: revM, May-2009; PackageReference: M08A; PackageDescription: SOIC Narrow, 4.9 x 3.9 x 1.45mm, 8 Lead, 1.27mm Pitch; RoHS: Y; PinCount: 8; Code_JEDEC: MS-012-AA; Code_IPC: SOIC127P600-8; ComponentLink1Description: Manufacturer URL; ComponentLink1URL: http://www.national.com/; ComponentLink2Description: LP2988 Datasheet; ComponentLink2URL: http://www.national.com/ds/LP/LP2988.pdf; ComponentLink3Description: LP2988 Web Page; ComponentLink3URL: http://www.national.com/pf/LP/LP2988.html; ComponentLink4Description: M08A Package Page; ComponentLink4URL: http://www.national.com/packaging/folders/m08a.html
footprint M08A_N (SOIC, 8-Leads, Body 4.9x3.9mm, Pitch 1.27mm, IPC Medium Density)
footprint M08A_L (SOIC, 8-Leads, Body 4.9x3.9mm, Pitch 1.27mm, IPC High Density)
footprint M08A_M (SOIC, 8-Leads, Body 4.9x3.9mm, Pitch 1.27mm, IPC Low Density)
pins: 1 NC, 2 DLY, 3 GND (power), 4 IN (power), 5 OUT (power), 6 SNS, 7 ~{ERR} (oc), 8 ~{SD} (in)

## LP2988IMM-2.8
designator U?
Micropower, 200 mA Ultra Low-Dropout Low Noise Voltage Regulator with Programmable Power-On Reset Delay, 8-pin Mini SOIC; PartNumber: LP2988IMM-2.8; Manufacturer: National Semiconductor; PackageTopMarking: ZXTT*L0IB; PowerWise: N; CompType: LDO IC; High-Reliability: Y; DatasheetVersion: Mar-2005; PackageVersion: revF, Apr-2008; PackageReference: MUA08A; PackageDescription: MINI SOIC, .118 x .118 x .034in, 8 Lead, .0256in Pitch; RoHS: N; PinCount: 8; Code_JEDEC: MO-187-AA; ComponentLink1Description: Manufacturer URL; ComponentLink1URL: http://www.national.com/; ComponentLink2Description: LP2988 Datasheet; ComponentLink2URL: http://www.national.com/ds/LP/LP2988.pdf; ComponentLink3Description: LP2988 Web Page; ComponentLink3URL: http://www.national.com/pf/LP/LP2988.html; ComponentLink4Description: MUA08A Package Page; ComponentLink4URL: http://www.national.com/packaging/folders/mua08a.html
footprint MUA08A_N (TSOP, 8-Leads, Body 3x3mm, Pitch 0.65mm, IPC Medium Density)
footprint MUA08A_L (TSOP, 8-Leads, Body 3x3mm, Pitch 0.65mm, IPC High Density)
footprint MUA08A_M (TSOP, 8-Leads, Body 3x3mm, Pitch 0.65mm, IPC Low Density)
pins: 1 NC, 2 DLY, 3 GND (power), 4 IN (power), 5 OUT (power), 6 SNS, 7 ~{ERR} (oc), 8 ~{SD} (in)

## LP2988IMM-3.0
designator U?
Micropower, 200 mA Ultra Low-Dropout Low Noise Voltage Regulator with Programmable Power-On Reset Delay, 8-pin Mini SOIC; PartNumber: LP2988IMM-3.0; Manufacturer: National Semiconductor; PackageTopMarking: ZXTT*L49B; PowerWise: N; CompType: LDO IC; High-Reliability: Y; DatasheetVersion: Mar-2005; PackageVersion: revF, Apr-2008; PackageReference: MUA08A; PackageDescription: MINI SOIC, .118 x .118 x .034in, 8 Lead, .0256in Pitch; RoHS: N; PinCount: 8; Code_JEDEC: MO-187-AA; ComponentLink1Description: Manufacturer URL; ComponentLink1URL: http://www.national.com/; ComponentLink2Description: LP2988 Datasheet; ComponentLink2URL: http://www.national.com/ds/LP/LP2988.pdf; ComponentLink3Description: LP2988 Web Page; ComponentLink3URL: http://www.national.com/pf/LP/LP2988.html; ComponentLink4Description: MUA08A Package Page; ComponentLink4URL: http://www.national.com/packaging/folders/mua08a.html
footprint MUA08A_N (TSOP, 8-Leads, Body 3x3mm, Pitch 0.65mm, IPC Medium Density)
footprint MUA08A_L (TSOP, 8-Leads, Body 3x3mm, Pitch 0.65mm, IPC High Density)
footprint MUA08A_M (TSOP, 8-Leads, Body 3x3mm, Pitch 0.65mm, IPC Low Density)
pins: 1 NC, 2 DLY, 3 GND (power), 4 IN (power), 5 OUT (power), 6 SNS, 7 ~{ERR} (oc), 8 ~{SD} (in)

## LP2988IMM-3.0/NOPB
designator U?
Micropower, 200 mA Ultra Low-Dropout Low Noise Voltage Regulator with Programmable Power-On Reset Delay, 8-pin Mini SOIC, Pb-Free; PartNumber: LP2988IMM-3.0/NOPB; Manufacturer: National Semiconductor; PackageTopMarking: ZXTT*L49B; PowerWise: N; CompType: LDO IC; High-Reliability: Y; DatasheetVersion: Mar-2005; PackageVersion: revF, Apr-2008; PackageReference: MUA08A; PackageDescription: MINI SOIC, .118 x .118 x .034in, 8 Lead, .0256in Pitch; RoHS: Y; PinCount: 8; Code_JEDEC: MO-187-AA; ComponentLink1Description: Manufacturer URL; ComponentLink1URL: http://www.national.com/; ComponentLink2Description: LP2988 Datasheet; ComponentLink2URL: http://www.national.com/ds/LP/LP2988.pdf; ComponentLink3Description: LP2988 Web Page; ComponentLink3URL: http://www.national.com/pf/LP/LP2988.html; ComponentLink4Description: MUA08A Package Page; ComponentLink4URL: http://www.national.com/packaging/folders/mua08a.html
footprint MUA08A_N (TSOP, 8-Leads, Body 3x3mm, Pitch 0.65mm, IPC Medium Density)
footprint MUA08A_L (TSOP, 8-Leads, Body 3x3mm, Pitch 0.65mm, IPC High Density)
footprint MUA08A_M (TSOP, 8-Leads, Body 3x3mm, Pitch 0.65mm, IPC Low Density)
pins: 1 NC, 2 DLY, 3 GND (power), 4 IN (power), 5 OUT (power), 6 SNS, 7 ~{ERR} (oc), 8 ~{SD} (in)

## LP2988IMM-3.3
designator U?
Micropower, 200 mA Ultra Low-Dropout Low Noise Voltage Regulator with Programmable Power-On Reset Delay, 8-pin Mini SOIC; PartNumber: LP2988IMM-3.3; Manufacturer: National Semiconductor; PackageTopMarking: ZXTT*L50B; PowerWise: N; CompType: LDO IC; High-Reliability: Y; DatasheetVersion: Mar-2005; PackageVersion: revF, Apr-2008; PackageReference: MUA08A; PackageDescription: MINI SOIC, .118 x .118 x .034in, 8 Lead, .0256in Pitch; RoHS: N; PinCount: 8; Code_JEDEC: MO-187-AA; ComponentLink1Description: Manufacturer URL; ComponentLink1URL: http://www.national.com/; ComponentLink2Description: LP2988 Datasheet; ComponentLink2URL: http://www.national.com/ds/LP/LP2988.pdf; ComponentLink3Description: LP2988 Web Page; ComponentLink3URL: http://www.national.com/pf/LP/LP2988.html; ComponentLink4Description: MUA08A Package Page; ComponentLink4URL: http://www.national.com/packaging/folders/mua08a.html
footprint MUA08A_N (TSOP, 8-Leads, Body 3x3mm, Pitch 0.65mm, IPC Medium Density)
footprint MUA08A_L (TSOP, 8-Leads, Body 3x3mm, Pitch 0.65mm, IPC High Density)
footprint MUA08A_M (TSOP, 8-Leads, Body 3x3mm, Pitch 0.65mm, IPC Low Density)
pins: 1 NC, 2 DLY, 3 GND (power), 4 IN (power), 5 OUT (power), 6 SNS, 7 ~{ERR} (oc), 8 ~{SD} (in)

## LP2988IMM-3.3/NOPB
designator U?
Micropower, 200 mA Ultra Low-Dropout Low Noise Voltage Regulator with Programmable Power-On Reset Delay, 8-pin Mini SOIC, Pb-Free; PartNumber: LP2988IMM-3.3/NOPB; Manufacturer: National Semiconductor; PackageTopMarking: ZXTT*L50B; PowerWise: N; CompType: LDO IC; High-Reliability: Y; DatasheetVersion: Mar-2005; PackageVersion: revF, Apr-2008; PackageReference: MUA08A; PackageDescription: MINI SOIC, .118 x .118 x .034in, 8 Lead, .0256in Pitch; RoHS: Y; PinCount: 8; Code_JEDEC: MO-187-AA; ComponentLink1Description: Manufacturer URL; ComponentLink1URL: http://www.national.com/; ComponentLink2Description: LP2988 Datasheet; ComponentLink2URL: http://www.national.com/ds/LP/LP2988.pdf; ComponentLink3Description: LP2988 Web Page; ComponentLink3URL: http://www.national.com/pf/LP/LP2988.html; ComponentLink4Description: MUA08A Package Page; ComponentLink4URL: http://www.national.com/packaging/folders/mua08a.html
footprint MUA08A_N (TSOP, 8-Leads, Body 3x3mm, Pitch 0.65mm, IPC Medium Density)
footprint MUA08A_L (TSOP, 8-Leads, Body 3x3mm, Pitch 0.65mm, IPC High Density)
footprint MUA08A_M (TSOP, 8-Leads, Body 3x3mm, Pitch 0.65mm, IPC Low Density)
pins: 1 NC, 2 DLY, 3 GND (power), 4 IN (power), 5 OUT (power), 6 SNS, 7 ~{ERR} (oc), 8 ~{SD} (in)

## LP2988IMM-5.0
designator U?
Micropower, 200 mA Ultra Low-Dropout Low Noise Voltage Regulator with Programmable Power-On Reset Delay, 8-pin Mini SOIC; PartNumber: LP2988IMM-5.0; Manufacturer: National Semiconductor; PackageTopMarking: ZXTT*L51B; PowerWise: N; CompType: LDO IC; High-Reliability: Y; DatasheetVersion: Mar-2005; PackageVersion: revF, Apr-2008; PackageReference: MUA08A; PackageDescription: MINI SOIC, .118 x .118 x .034in, 8 Lead, .0256in Pitch; RoHS: N; PinCount: 8; Code_JEDEC: MO-187-AA; ComponentLink1Description: Manufacturer URL; ComponentLink1URL: http://www.national.com/; ComponentLink2Description: LP2988 Datasheet; ComponentLink2URL: http://www.national.com/ds/LP/LP2988.pdf; ComponentLink3Description: LP2988 Web Page; ComponentLink3URL: http://www.national.com/pf/LP/LP2988.html; ComponentLink4Description: MUA08A Package Page; ComponentLink4URL: http://www.national.com/packaging/folders/mua08a.html
footprint MUA08A_N (TSOP, 8-Leads, Body 3x3mm, Pitch 0.65mm, IPC Medium Density)
footprint MUA08A_L (TSOP, 8-Leads, Body 3x3mm, Pitch 0.65mm, IPC High Density)
footprint MUA08A_M (TSOP, 8-Leads, Body 3x3mm, Pitch 0.65mm, IPC Low Density)
pins: 1 NC, 2 DLY, 3 GND (power), 4 IN (power), 5 OUT (power), 6 SNS, 7 ~{ERR} (oc), 8 ~{SD} (in)